# EAGLE library part 74HC595_SHIFTREGISTER (library ZHAW_BA)
Shiftregister 74HC595D-Q100,118, 8Bit DigiKey: Pt.Nr: 1727-1011-1-ND https://www.digikey.ch/product-detail/de/nexperia-usa-inc/74HC595D-Q100-118/1727-1011-1-ND/3749018
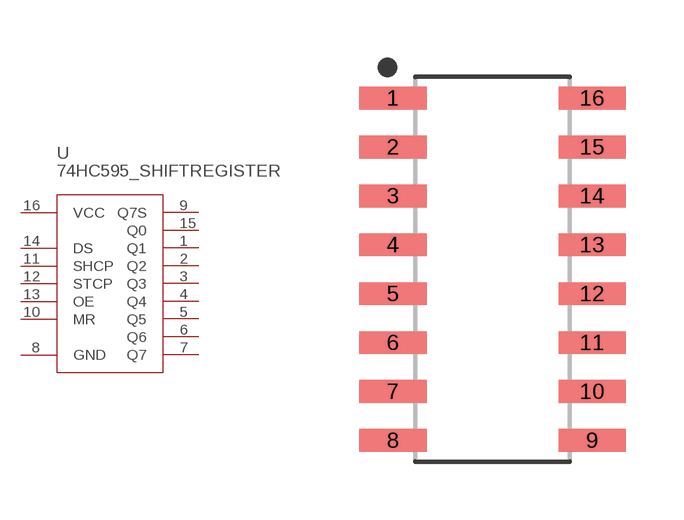
[diagram p11: symbol with the pads of SOIC-16; footprint SOIC-16]

Designator prefix U

## 74HC595_SHIFTREGISTER  [SOIC-16]
1  Q1
2  Q2
3  Q3
4  Q4
5  Q5
6  Q6
7  Q7
8  GND
9  Q7S
10  MR
11  SHCP
12  STCP
13  OE
14  DS
15  Q0
16  VCC

## Footprint SOIC-16 (pad centres in mm)
16-SOIC, 1.27 mm pitch, 6.00 mm span, 9.90 X 3.90 X 1.75 mm body 16-pin SOIC package with 1.27 mm pitch, 6.00 mm span with body size 9.90 X 3.90 X 1.75 mm
smd 1.746 x 0.592: 1 -2.585,4.445; 2 -2.585,3.175; 3 -2.585,1.905; 4 -2.585,0.635; 5 -2.585,-0.635; 6 -2.585,-1.905; 7 -2.585,-3.175; 8 -2.585,-4.445; 9 2.585,-4.445; 10 2.585,-3.175; 11 2.585,-1.905; 12 2.585,-0.635; 13 2.585,0.635; 14 2.585,1.905; 15 2.585,3.175; 16 2.585,4.445